# EAGLE library part CON-AMP-MT_L08P (library SchemaRobotV1.0)
AMP MT CONNECTOR
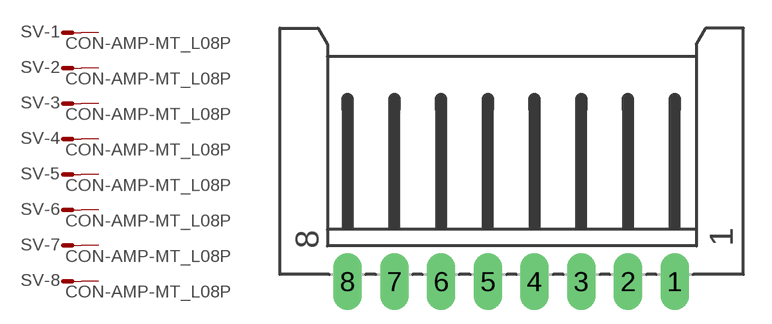
[diagram p1: symbol with the pads of CON-AMP-MT_L08P; footprint CON-AMP-MT_L08P]

Designator prefix SV; gates -1=CON-AMP-MT_M -2=CON-AMP-MT_M -3=CON-AMP-MT_M -4=CON-AMP-MT_M -5=CON-AMP-MT_M -6=CON-AMP-MT_M -7=CON-AMP-MT_M -8=CON-AMP-MT_M

## CON-AMP-MT_L08P (OC_FARNELL: unknown; OC_NEWARK: unknown)  [CON-AMP-MT_L08P]
1  -1:S  pas
2  -2:S  pas
3  -3:S  pas
4  -4:S  pas
5  -5:S  pas
6  -6:S  pas
7  -7:S  pas
8  -8:S  pas

## Footprint CON-AMP-MT_L08P (pad centres in mm)
AMP MT CONNECTOR
drill 1.016 long: 1 8.75,-6.25; 2 6.25,-6.25; 3 3.75,-6.25; 4 1.25,-6.25; 5 -1.25,-6.25; 6 -3.75,-6.25; 7 -6.25,-6.25; 8 -8.75,-6.25